# Altium integrated library XB7608A.IntLib: 1 symbol
Pins are listed as number, name and electrical type; pins without a type are passive.

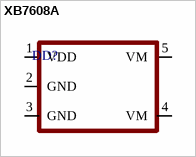
[diagram p0: symbol XB7608A]

## XB7608A
designator DD?
footprint XB7608A
pins: 1 VDD, 2 GND, 3 GND, 4 VM, 5 VM